# Altium integrated library 4-1879462-2.IntLib: 1 symbol
Pins are listed as number, name and electrical type; pins without a type are passive.

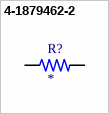
[diagram p0: symbol 4-1879462-2]

## 4-1879462-2
designator R?
RL73H 2B R82 1% 1K RL; MP: 4-1879462-2; Package: None; Price: None; Value: *; Availability: Unavailable
footprint RESC3115X65N
pins: 1, 2